# Altium footprint library PMEG45U10EPDZ.PcbLib: 3 footprints
Each footprint in its own frame and in the unit in brackets; x right, y up, seen from the top. Pads: shape width x height; smd on the part's side, far side on the other; paste and mask are expansions set on the pad; w line width, h text height; cw(c..) or ccw(c..) is an arc to the next point about the centre after c.
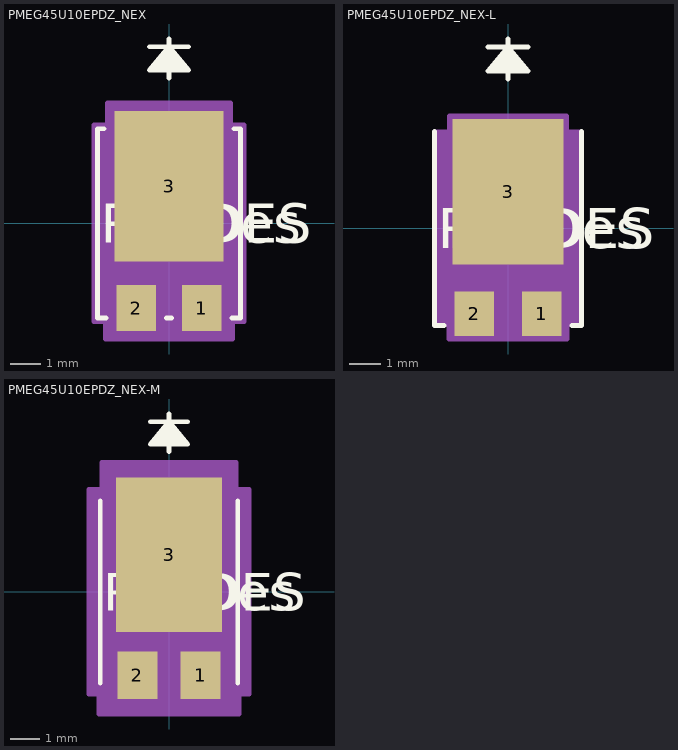
[diagram p0: the footprints below, top view; thin cyan lines are the x and y axes]

## PMEG45U10EPDZ_NEX [mil]
pads (3):
  rect 51x59 smd paste+0 mask+0: 1(41.93,-108.5) 2(-41.93,-108.5)
  rect 140x193 smd paste+0 mask+0: 3(0,47.5)
Top Overlay:
  lines w6: -83.1,121 -91.5,121 -91.5,-121 -80.53,-121 ; -25,226 25,226 ; -20,196 0,226 ; -15,196 0,226 ; -10,196 0,226 ; -5,196 0,226 ; -3.33,-121 3.33,-121 ; 0,186 0,236 ; 5,196 0,226 ; 10,196 0,226 ; 15,196 0,226 ; 20,196 0,226 ; 80.53,-121 91.5,-121 91.5,121 83.1,121 ; 0,226 25,196 -25,196 0,226
  text "RefDes" at -75,-25 h50
  text "REFDES" at -87.5,-25 h50
Mechanical 13:
  lines w1: -25,226 25,226 ; -20,196 0,226 ; -15,196 0,226 ; -10,196 0,226 ; -5,196 0,226 ; 0,186 0,236 ; 5,196 0,226 ; 10,196 0,226 ; 15,196 0,226 ; 20,196 0,226 ; 0,226 25,196 -25,196 0,226 ; -86.5,-116 86.5,-116 86.5,116 -86.5,116 -86.5,-116
  text "RefDes2" at -87.5,-25 h50
Mechanical 15:
  region: -81.43,-126 -96.5,-126 -96.5,126 -79,126 -79,154 79,154 79,126 96.5,126 96.5,-126 81.43,-126 81.43,-148 -81.43,-148
  region: 86.5,-116 -86.5,-116 -86.5,116 86.5,116
  lines w6: -96.5,-126 -96.5,126 -79,126 -79,154 79,154 79,126 96.5,126 96.5,-126 81.43,-126 81.43,-148 -81.43,-148 -81.43,-126 -96.5,-126
3D body "PMEG45U10EPDZ_NEX.step": height 34.09, standoff 0, extent -86.5,-130 86.5,130

## PMEG45U10EPDZ_NEX-L [mil]
pads (3):
  rect 49x55 smd paste+0 mask+0: 1(41.93,-106.5) 2(-41.93,-106.5)
  rect 138x181 smd paste+0 mask+0: 3(0,45.5)
Top Overlay:
  lines w6: -91.5,121 -91.5,-121 -79.53,-121 ; -25,226 25,226 ; -20,196 0,226 ; -15,196 0,226 ; -10,196 0,226 ; -5,196 0,226 ; 0,186 0,236 ; 5,196 0,226 ; 10,196 0,226 ; 15,196 0,226 ; 20,196 0,226 ; 79.53,-121 91.5,-121 91.5,121 ; 0,226 25,196 -25,196 0,226
  text "RefDes" at -75,-25 h50
  text "REFDES" at -87.5,-25 h50
Mechanical 13:
  lines w1: -25,226 25,226 ; -20,196 0,226 ; -15,196 0,226 ; -10,196 0,226 ; -5,196 0,226 ; 0,186 0,236 ; 5,196 0,226 ; 10,196 0,226 ; 15,196 0,226 ; 20,196 0,226 ; 0,226 25,196 -25,196 0,226 ; -86.5,-116 86.5,-116 86.5,116 -86.5,116 -86.5,-116
  text "RefDes2" at -87.5,-25 h50
Mechanical 15:
  region: -73.43,-120 -90.5,-120 -90.5,120 -73,120 -73,140 73,140 73,120 90.5,120 90.5,-120 73.43,-120 73.43,-138 -73.43,-138
  region: 86.5,-116 -86.5,-116 -86.5,116 86.5,116
  lines w6: -90.5,-120 -90.5,120 -73,120 -73,140 73,140 73,120 90.5,120 90.5,-120 73.43,-120 73.43,-138 -73.43,-138 -73.43,-120 -90.5,-120
3D body "PMEG45U10EPDZ_NEX.step": height 34.09, standoff 0, extent -86.5,-130 86.5,130

## PMEG45U10EPDZ_NEX-M [mil]
pads (3):
  rect 53x63 smd paste+0 mask+0: 1(41.93,-110.5) 2(-41.93,-110.5)
  rect 140x205 smd paste+0 mask+0: 3(0,49.5)
Top Overlay:
  lines w6: -91.5,-121 -91.5,121 ; -25,226 25,226 ; -20,196 0,226 ; -15,196 0,226 ; -10,196 0,226 ; -5,196 0,226 ; 0,186 0,236 ; 5,196 0,226 ; 10,196 0,226 ; 15,196 0,226 ; 20,196 0,226 ; 91.5,-121 91.5,121 ; 0,226 25,196 -25,196 0,226
  text "RefDes" at -75,-25 h50
  text "REFDES" at -87.5,-25 h50
Mechanical 13:
  lines w1: -25,226 25,226 ; -20,196 0,226 ; -15,196 0,226 ; -10,196 0,226 ; -5,196 0,226 ; 0,186 0,236 ; 5,196 0,226 ; 10,196 0,226 ; 15,196 0,226 ; 20,196 0,226 ; 0,226 25,196 -25,196 0,226 ; -86.5,-116 86.5,-116 86.5,116 -86.5,116 -86.5,-116
  text "RefDes2" at -87.5,-25 h50
Mechanical 15:
  region: -93.43,-136 -106.5,-136 -106.5,136 -89,136 -89,172 89,172 89,136 106.5,136 106.5,-136 93.43,-136 93.43,-162 -93.43,-162
  region: 86.5,-116 -86.5,-116 -86.5,116 86.5,116
  lines w6: -106.5,-136 -106.5,136 -89,136 -89,172 89,172 89,136 106.5,136 106.5,-136 93.43,-136 93.43,-162 -93.43,-162 -93.43,-136 -106.5,-136
3D body "PMEG45U10EPDZ_NEX.step": height 34.09, standoff 0, extent -86.5,-130 86.5,130